# Altium schematic symbol library CapPlast.SchLib: 5 symbols
Pins are listed as number, name and electrical type; pins without a type are passive.

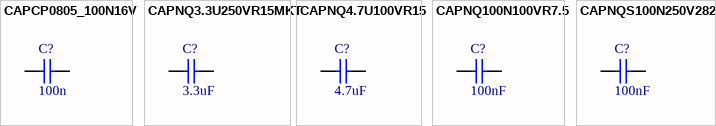
[diagram p0: symbols CAPCP0805_100N16V to CAPNQS100N250V2824]

## CAPCP0805_100N16V
designator C?, comment 100n
Capacitor Chip Film 0805; Manufacturer: Panasonic, Farnell; Manufacturer No: ECPU1C104MA5, 9694250; Comment2: 16Vdc 20%; Sort: 251; Tech: THDW; Package: Cap Chip Film 0805; Price: 0.26
signal-integrity model Model Name (Model Description)
footprint CC0805-1 (Chip capacitor  0805)
pins: 1, 2

## CAPNQ3.3U250VR15MKT
designator C?, comment 3.3uF
Capacitor plastic 13.9x16.5x14.5mm R15mm; Manufacturer: Epcos; Manufacturer No: B32562J3335K000; Comment2: 250VDC 10%; Sort: 250; Tech: THDW; Package: Cap plastic 13.9X16.5mm; Price: 0
signal-integrity model Model Name (Model Description)
footprint CAPNQR15-13.9X16.5X14.5 (Capacitor plastic 13.9x16.5x14.5mm R15mm)
pins: 1, 2

## CAPNQ4.7U100VR15
designator C?, comment 4.7uF
Capacitor plastic 7.3x16.5x10.6mm R15mm; Manufacturer: Epcos; Manufacturer No: B32562H1475M000; Comment2: 100VDC 20%; Sort: 250; Tech: THDW; Package: Cap plastic 7.3X16.5mm; Price: 0
signal-integrity model Model Name (Model Description)
footprint CAPNQR15-7.3X16.5X10.6 (Capacitor plastic 7.3x16.5x10.6mm R15mm)
pins: 1, 2

## CAPNQ100N100VR7.5
designator C?, comment 100nF
Capacitor plastic 3x8.5x10mm R7.5mm; Comment2: 100VDC MKS; Sort: 250; Tech: THDW; Package: Cap plastic 3X10mm; Price: 0
signal-integrity model Model Name (Model Description)
footprint CAPNQR7.5-3X10X8.5
pins: 1, 2

## CAPNQS100N250V2824
designator C?, comment 100nF
Capacitor plastic SMD 7.2x6.1x5mm; Manufacturer: Wima; Manufacturer No: SMD-PEN2824 0,1/20/250VDC; Comment2: 250VDC PEN 20%; Sort: 250; Tech: THDW; Package: Cap plastic 2824; Price: 0
signal-integrity model Model Name (Model Description)
footprint CPC2824 (Chip plastic 2824 7.2x6.1x5mm)
pins: 1, 2